# EAGLE library part ESDPROTECTION-DSILC6-4XX (library BiomedicalImagingLibrary)
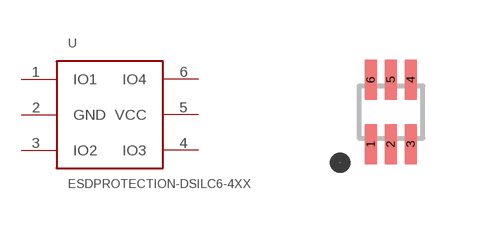
[diagram p2: symbol with the pads of SOT-666; footprint SOT-666]

Designator prefix -

## ESDPROTECTION-DSILC6-4XX  [SOT-666]
1  IO1
2  GND
3  IO2
4  IO3
5  VCC
6  IO4

## Footprint SOT-666 (pad centres in mm)
DSILC6-4xx ESD Protection for high speed interface
smd 0.3 x 0.99: 1 -0.5,-0.805; 2 0,-0.805; 3 0.5,-0.805; 4 0.5,0.805; 5 0,0.805; 6 -0.5,0.805